# Altium integrated library Actel ProASIC3L.IntLib: 284 symbols (part 21 of 40)
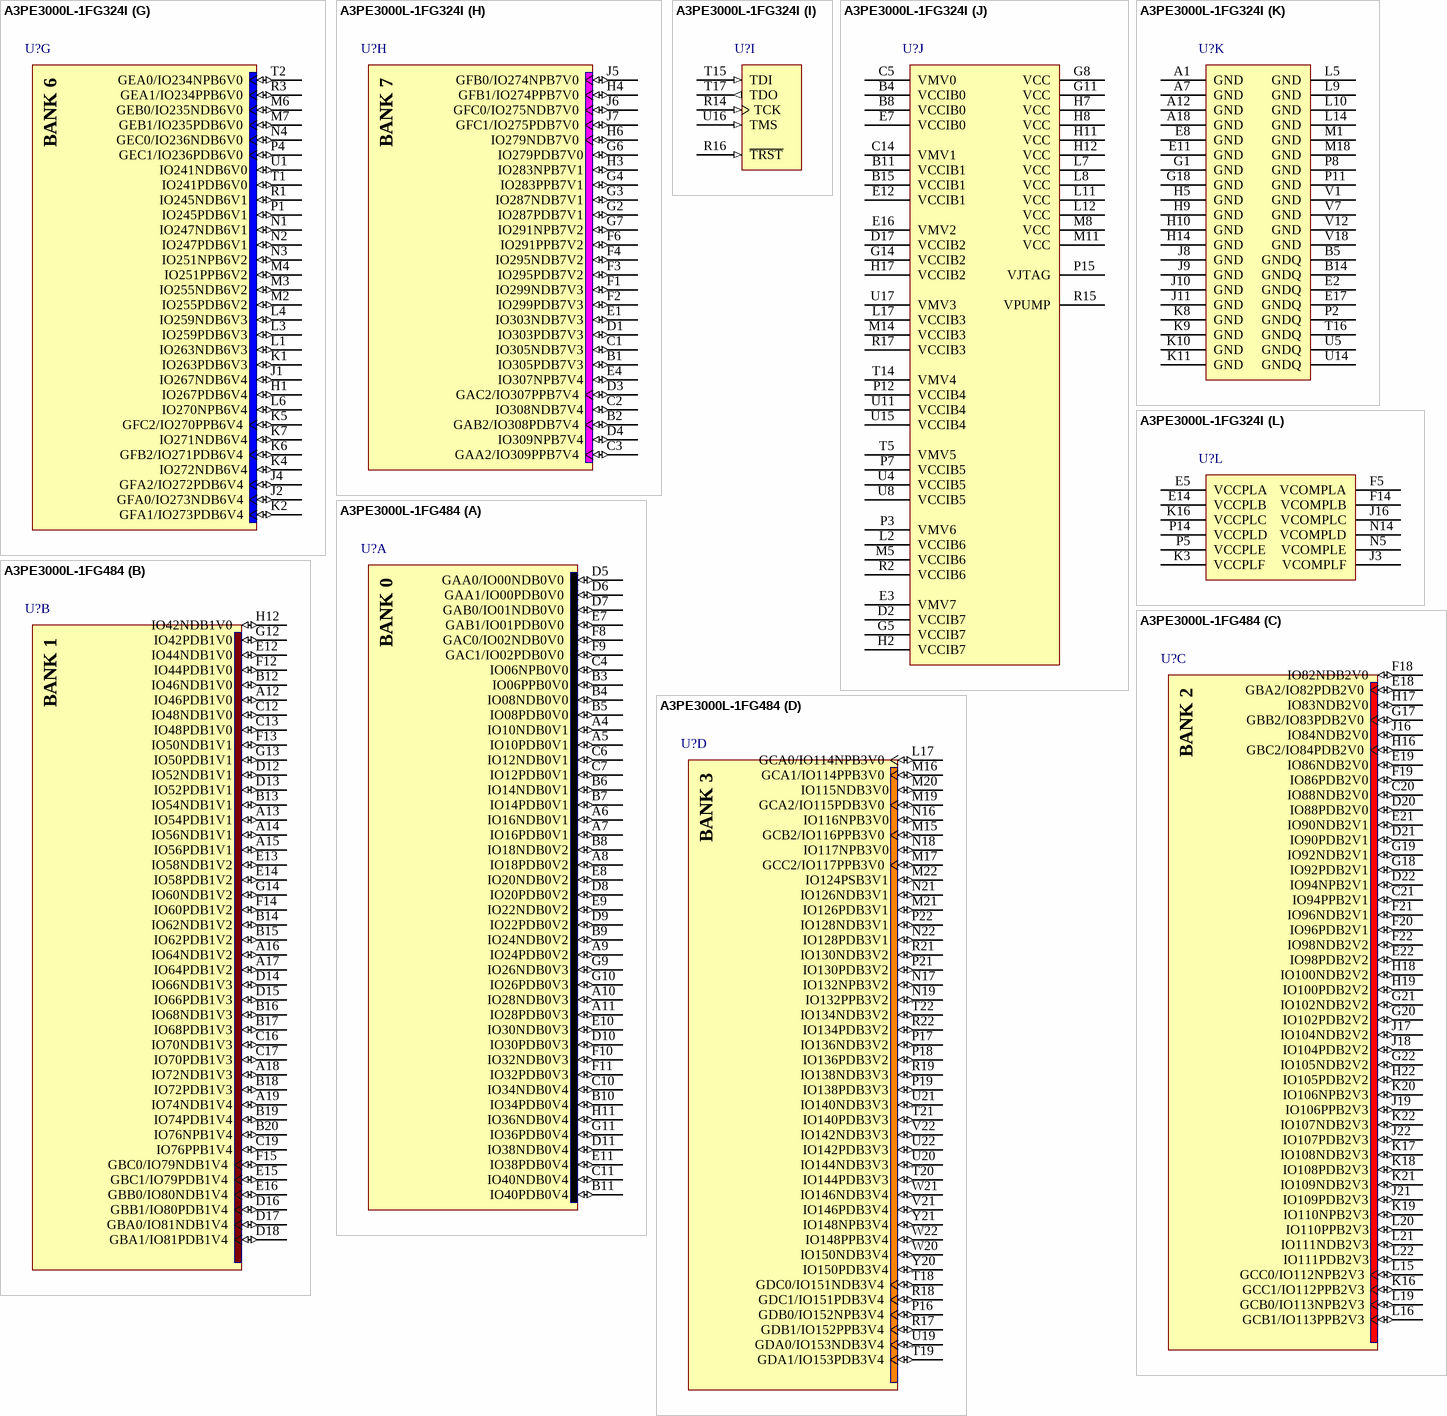
[diagram p370: symbols A3PE3000L-1FG324I to A3PE3000L-1FG484]

## A3PE3000L-1FG324I
designator U?
ProASIC3L Low-Power Flash Family FPGA, 221 User IOs, 3M System Gates, 504 Kbits RAM, 1 Kbit FlashROM, 6PLLs, 324-Ball FBGA, Industrial Grade; DatasheetVersion: v1.3, Feb-2009; PackageVersion: rev39, Aug-2010; PackageReference: FG324; PackageDescription: 324-Ball Fine Pitch Plastic Ball Grid Array (FG324); Code_JEDEC: MS-034-AAG-1; Code_IPC: BGA100P18X18-324; ComponentLink1Description: Manufacturer URL; ComponentLink1URL: http://www.actel.com/; ComponentLink2Description: ProASIC3 Datasheet; ComponentLink2URL: http://www.actel.com/documents/PA3L_DS.pdf; ComponentLink3Description: Package Mechanical Drawings; ComponentLink3URL: http://www.actel.com/documents/PckgMechDrwngs.pdf; ComponentLink4Description: ProASIC3 Documents; ComponentLink4URL: http://www.actel.com/products/pa3l/docs.aspx
footprint FG324 (BGA, 324-Leads, Body 19x19mm, Pitch 1mm)
part A pins: A2 IO08NDB0V0 (io), A3 IO08PDB0V0 (io), A4 IO10NDB0V1 (io), A5 IO10PDB0V1 (io), A6 IO12PDB0V1 (io), A8 IO32NDB0V3 (io), A9 IO32PDB0V3 (io), B3 GAA0/IO00NPB0V0 (io), B6 IO12NDB0V1 (io), B7 IO18NDB0V2 (io), C4 GAA1/IO00PPB0V0 (io), C6 IO14NDB0V1 (io), C7 IO18PDB0V2 (io), C8 IO40NDB0V4 (io), C9 IO40PDB0V4 (io), D5 GAB1/IO01PPB0V0 (io), D6 IO14PDB0V1 (io), D7 IO24NDB0V2 (io), D8 IO24PDB0V2 (io), D9 IO28PDB0V3 (io), E6 GAB0/IO01NPB0V0 (io), E9 IO28NDB0V3 (io), F7 GAC0/IO02NDB0V0 (io), F8 GAC1/IO02PDB0V0 (io), F9 IO26PDB0V3 (io), F10 IO34PDB0V4 (io), G9 IO26NDB0V3 (io), G10 IO34NDB0V4 (io)
part B pins: A10 IO42PPB1V0 (io), A11 IO52NPB1V1 (io), A13 IO66NDB1V3 (io), A14 IO72NDB1V3 (io), A15 IO72PDB1V3 (io), A16 IO74NDB1V4 (io), A17 IO74PDB1V4 (io), B9 IO42NPB1V0 (io), B10 IO44NDB1V0 (io), B12 IO52PPB1V1 (io), B13 IO66PDB1V3 (io), B16 GBA0/IO81NDB1V4 (io), B17 GBA1/IO81PDB1V4 (io), C10 IO44PDB1V0 (io), C11 IO56NDB1V1 (io), C12 IO64NDB1V2 (io), C13 IO64PDB1V2 (io), C15 GBC0/IO79NDB1V4 (io), C16 GBC1/IO79PDB1V4 (io), D10 IO48NDB1V0 (io), D11 IO56PDB1V1 (io), D12 IO60PPB1V2 (io), D13 GBB0/IO80NDB1V4 (io), D14 GBB1/IO80PDB1V4 (io), E10 IO48PDB1V0 (io), E13 IO60NPB1V2 (io), F11 IO58NDB1V2 (io), F12 IO58PDB1V2 (io)
part C pins: B18 IO88PDB2V0 (io), C17 GBB2/IO83PPB2V0 (io), C18 IO88NDB2V0 (io), D15 GBA2/IO82PDB2V0 (io), D16 IO83NPB2V0 (io), D18 IO90PDB2V1 (io), E15 IO82NDB2V0 (io), E18 IO90NDB2V1 (io), F13 IO94PPB2V1 (io), F15 GBC2/IO84PDB2V0 (io), F16 IO84NDB2V0 (io), F17 IO92NDB2V1 (io), F18 IO92PDB2V1 (io), G12 IO94NPB2V1 (io), G13 IO98PDB2V2 (io), G15 GCC0/IO112NPB2V3 (io), G16 IO104PDB2V2 (io), G17 IO104NDB2V2 (io), H13 IO98NDB2V2 (io), H15 GCB1/IO113PDB2V3 (io), H16 GCC1/IO112PPB2V3 (io), H18 IO108PDB2V3 (io), J15 GCB0/IO113NDB2V3 (io), J18 IO108NDB2V3 (io)
part D pins: J12 GCA2/IO115PDB3V0 (io), J13 GCA1/IO114PDB3V0 (io), J14 GCA0/IO114NDB3V0 (io), J17 IO120NPB3V0 (io), K12 IO115NDB3V0 (io), K13 GCB2/IO116PDB3V0 (io), K14 IO116NDB3V0 (io), K15 GCC2/IO117PDB3V0 (io), K17 IO124NPB3V1 (io), K18 IO120PPB3V0 (io), L13 IO132PDB3V2 (io), L15 IO117NDB3V0 (io), L16 IO128NPB3V1 (io), L18 IO124PPB3V1 (io), M12 GDA0/IO153NPB3V4 (io), M13 IO132NDB3V2 (io), M15 IO134NDB3V2 (io), M16 IO134PDB3V2 (io), M17 IO128PPB3V1 (io), N13 GDA1/IO153PPB3V4 (io), N15 GDB0/IO152NDB3V4 (io), N16 GDB1/IO152PDB3V4 (io), N17 IO138NDB3V3 (io), N18 IO138PDB3V3 (io), P16 GDC0/IO151NDB3V4 (io), P17 GDC1/IO151PDB3V4 (io), P18 IO142PDB3V3 (io), R18 IO142NDB3V3 (io), T18 IO146PDB3V4 (io), U18 IO146NDB3V4 (io)
part E pins: M9 IO192PPB4V4 (io), M10 IO154NPB4V0 (io), N8 IO192NPB4V4 (io), N9 IO174PDB4V2 (io), N10 IO170PDB4V2 (io), N11 GDA2/IO154PPB4V0 (io), N12 GDB2/IO155PPB4V0 (io), P9 IO174NDB4V2 (io), P10 IO170NDB4V2 (io), P13 IO155NPB4V0 (io), R9 IO186PDB4V4 (io), R10 IO178PDB4V3 (io), R11 IO168NSB4V1 (io), R12 IO164PDB4V1 (io), R13 GDC2/IO156PDB4V0 (io), T9 IO186NDB4V4 (io), T10 IO178NDB4V3 (io), T11 IO166NPB4V1 (io), T12 IO164NDB4V1 (io), T13 IO156NDB4V0 (io), U9 IO182NPB4V3 (io), U10 IO180NPB4V3 (io), U12 IO166PPB4V1 (io), U13 IO162PDB4V1 (io), V8 IO190NDB4V4 (io), V9 IO190PDB4V4 (io), V10 IO182PPB4V3 (io), V11 IO180PPB4V3 (io), V13 IO162NDB4V1 (io), V14 IO160NDB4V0 (io), V15 IO160PDB4V0 (io), V16 IO158NDB4V0 (io), V17 IO158PDB4V0 (io)
part F pins: N6 IO212NDB5V2 (io), N7 IO212PDB5V2 (io), P6 IO214PDB5V2 (io), R4 IO232NDB5V4 (io), R5 ~{FF}/GEB2/IO232PDB5V4 (io), R6 IO214NDB5V2 (io), R7 IO202PDB5V1 (io), R8 IO194PDB5V0 (io), T3 IO233NPB5V4 (io), T4 IO231NPB5V4 (io), T6 IO208NDB5V1 (io), T7 IO202NDB5V1 (io), T8 IO194NDB5V0 (io), U2 GEA2/IO233PPB5V4 (io), U3 GEC2/IO231PPB5V4 (io), U6 IO208PDB5V1 (io), U7 IO198PPB5V0 (io), V2 IO218NDB5V3 (io), V3 IO218PDB5V3 (io), V4 IO206NDB5V1 (io), V5 IO206PDB5V1 (io), V6 IO198NPB5V0 (io)
part G pins: H1 IO267PDB6V4 (io), J1 IO267NDB6V4 (io), J2 GFA0/IO273NDB6V4 (io), J4 GFA2/IO272PDB6V4 (io), K1 IO263PDB6V3 (io), K2 GFA1/IO273PDB6V4 (io), K4 IO272NDB6V4 (io), K5 GFC2/IO270PPB6V4 (io), K6 GFB2/IO271PDB6V4 (io), K7 IO271NDB6V4 (io), L1 IO263NDB6V3 (io), L3 IO259PDB6V3 (io), L4 IO259NDB6V3 (io), L6 IO270NPB6V4 (io), M2 IO255PDB6V2 (io), M3 IO255NDB6V2 (io), M4 IO251PPB6V2 (io), M6 GEB0/IO235NDB6V0 (io), M7 GEB1/IO235PDB6V0 (io), N1 IO247NDB6V1 (io), N2 IO247PDB6V1 (io), N3 IO251NPB6V2 (io), N4 GEC0/IO236NDB6V0 (io), P1 IO245PDB6V1 (io), P4 GEC1/IO236PDB6V0 (io), R1 IO245NDB6V1 (io), R3 GEA1/IO234PPB6V0 (io), T1 IO241PDB6V0 (io), T2 GEA0/IO234NPB6V0 (io), U1 IO241NDB6V0 (io)
part H pins: B1 IO305PDB7V3 (io), B2 GAB2/IO308PDB7V4 (io), C1 IO305NDB7V3 (io), C2 IO308NDB7V4 (io), C3 GAA2/IO309PPB7V4 (io), D1 IO303PDB7V3 (io), D3 GAC2/IO307PPB7V4 (io), D4 IO309NPB7V4 (io), E1 IO303NDB7V3 (io), E4 IO307NPB7V4 (io), F1 IO299NDB7V3 (io), F2 IO299PDB7V3 (io), F3 IO295PDB7V2 (io), F4 IO295NDB7V2 (io), F6 IO291PPB7V2 (io), G2 IO287PDB7V1 (io), G3 IO287NDB7V1 (io), G4 IO283PPB7V1 (io), G6 IO279PDB7V0 (io), G7 IO291NPB7V2 (io), H3 IO283NPB7V1 (io), H4 GFB1/IO274PPB7V0 (io), H6 IO279NDB7V0 (io), J5 GFB0/IO274NPB7V0 (io), J6 GFC0/IO275NDB7V0 (io), J7 GFC1/IO275PDB7V0 (io)
part I pins: R14 TCK (in), R16 ~{TRST} (in), T15 TDI (in), T17 TDO (out), U16 TMS (in)
part J pins: B4 VCCIB0 (power), B8 VCCIB0 (power), B11 VCCIB1 (power), B15 VCCIB1 (power), C5 VMV0 (power), C14 VMV1 (power), D2 VCCIB7 (power), D17 VCCIB2 (power), E3 VMV7 (power), E7 VCCIB0 (power), E12 VCCIB1 (power), E16 VMV2 (power), G5 VCCIB7 (power), G8 VCC (power), G11 VCC (power), G14 VCCIB2 (power), H2 VCCIB7 (power), H7 VCC (power), H8 VCC (power), H11 VCC (power), H12 VCC (power), H17 VCCIB2 (power), L2 VCCIB6 (power), L7 VCC (power), L8 VCC (power), L11 VCC (power), L12 VCC (power), L17 VCCIB3 (power), M5 VCCIB6 (power), M8 VCC (power), M11 VCC (power), M14 VCCIB3 (power), P3 VMV6 (power), P7 VCCIB5 (power), P12 VCCIB4 (power), P15 VJTAG (power), R2 VCCIB6 (power), R15 VPUMP (power), R17 VCCIB3 (power), T5 VMV5 (power), T14 VMV4 (power), U4 VCCIB5 (power), U8 VCCIB5 (power), U11 VCCIB4 (power), U15 VCCIB4 (power), U17 VMV3 (power)
part K pins: A1 GND (power), A7 GND (power), A12 GND (power), A18 GND (power), B5 GNDQ (power), B14 GNDQ (power), E2 GNDQ (power), E8 GND (power), E11 GND (power), E17 GNDQ (power), G1 GND (power), G18 GND (power), H5 GND (power), H9 GND (power), H10 GND (power), H14 GND (power), J8 GND (power), J9 GND (power), J10 GND (power), J11 GND (power), K8 GND (power), K9 GND (power), K10 GND (power), K11 GND (power), L5 GND (power), L9 GND (power), L10 GND (power), L14 GND (power), M1 GND (power), M18 GND (power), P2 GNDQ (power), P8 GND (power), P11 GND (power), T16 GNDQ (power), U5 GNDQ (power), U14 GNDQ (power), V1 GND (power), V7 GND (power), V12 GND (power), V18 GND (power)
part L pins: E5 VCCPLA (power), E14 VCCPLB (power), F5 VCOMPLA (power), F14 VCOMPLB (power), J3 VCOMPLF (power), J16 VCOMPLC (power), K3 VCCPLF (power), K16 VCCPLC (power), N5 VCOMPLE (power), N14 VCOMPLD (power), P5 VCCPLE (power), P14 VCCPLD (power)
part A text: BANK 0
part B text: BANK 1
part C text: BANK 2
part D text: BANK 3
part E text: BANK 4
part F text: BANK 5
part G text: BANK 6
part H text: BANK 7

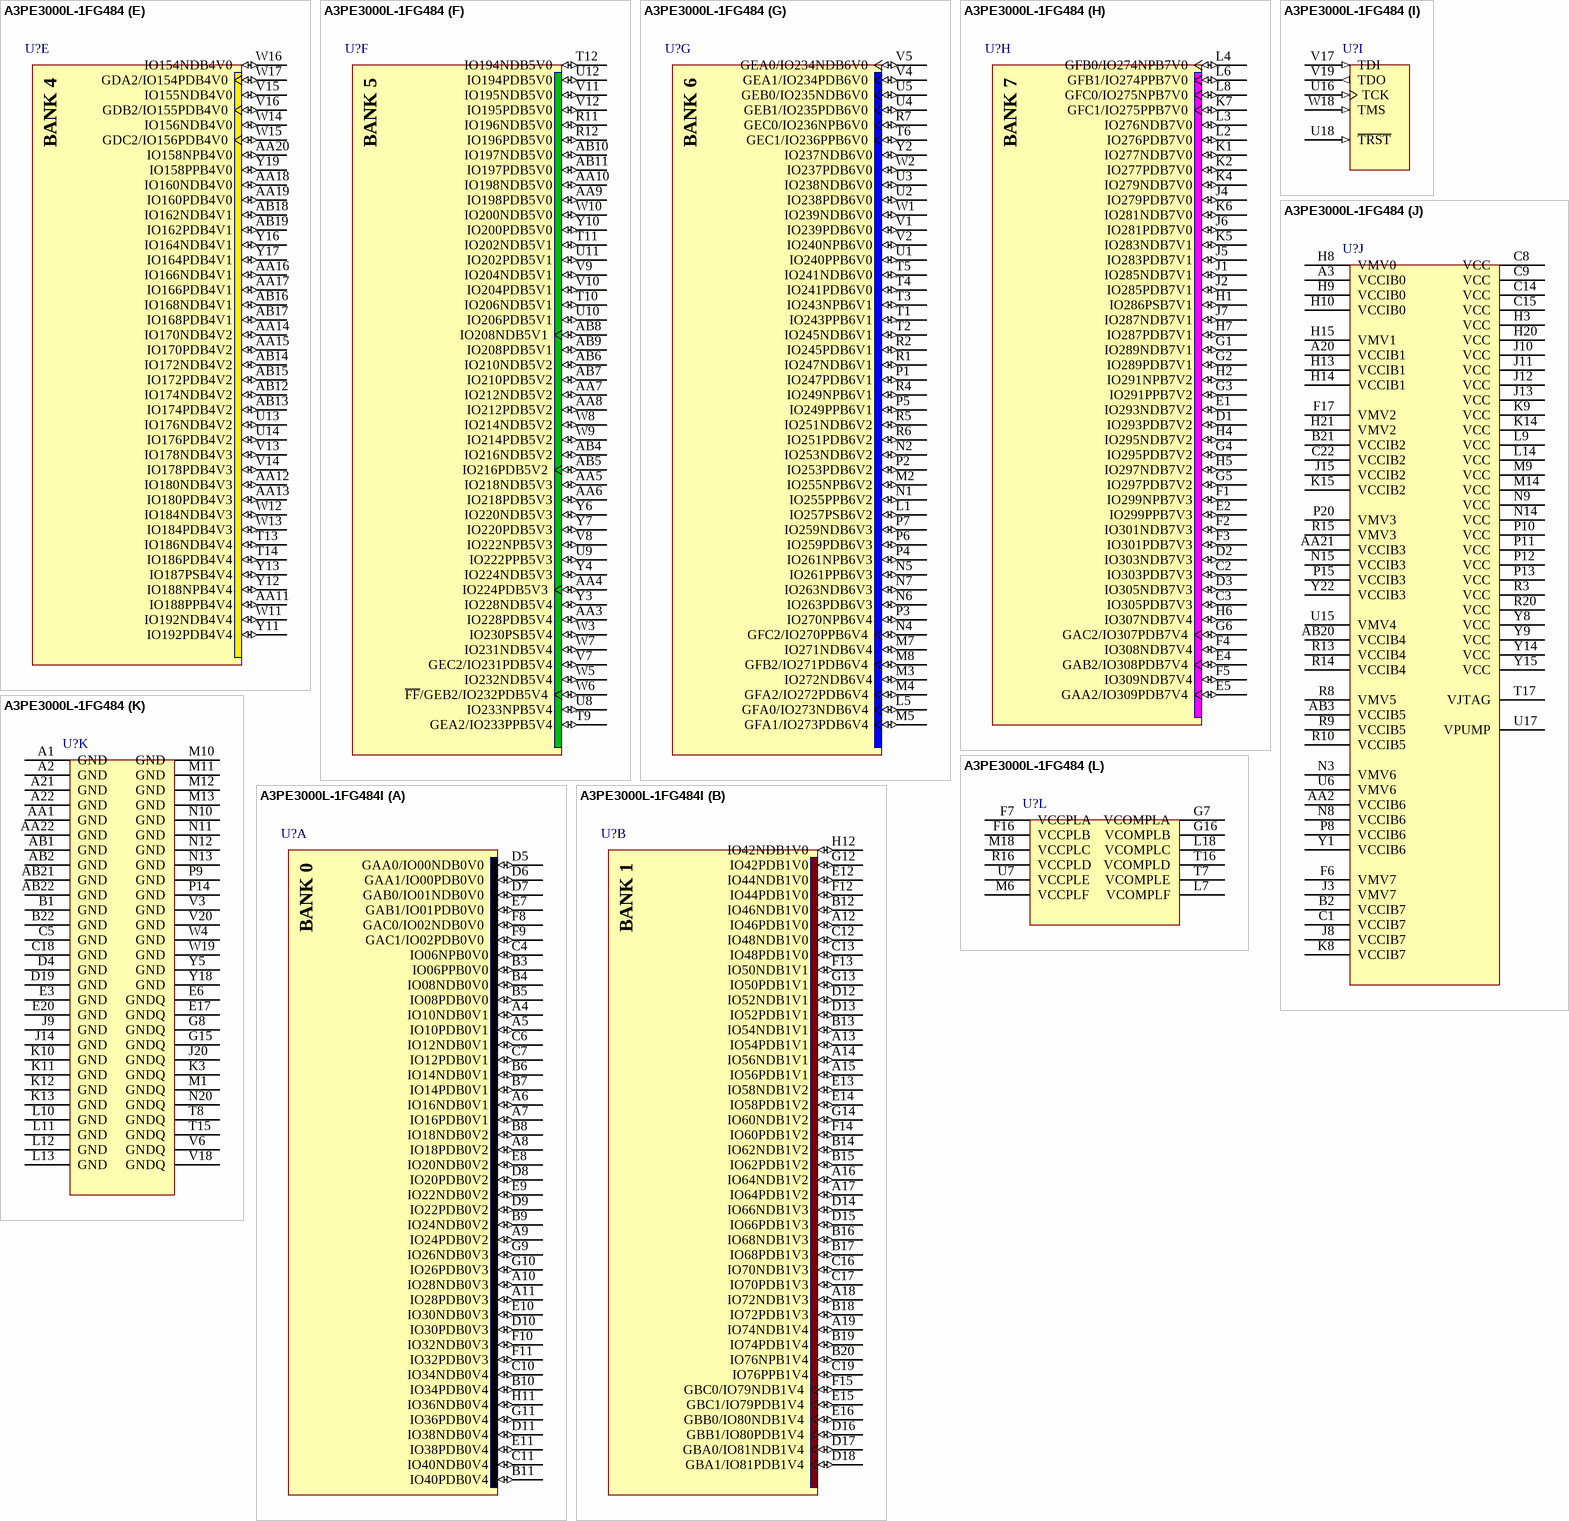
[diagram p81: symbols A3PE3000L-1FG484 to A3PE3000L-1FG484I]